# Altium schematic symbol library 691 356 310 0xx B.SchLib: 7 symbols
Pins are listed as number, name and electrical type; pins without a type are passive.

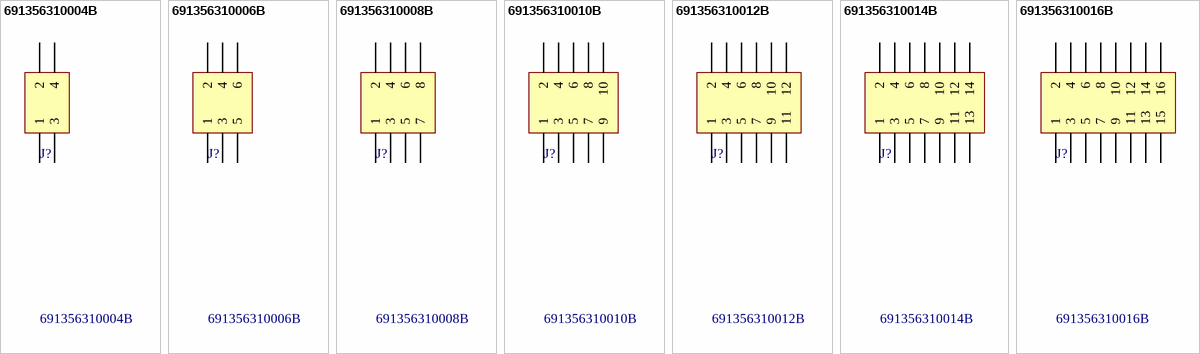
[diagram p0: symbols 691356310004B to 691356310016B]

## 691356310004B
designator J?
WR-TBL Terminal block - serie 356 B - 3.81 mm; Manufacturer: Würth Elektronik eiSos GmbH; ComponentLink1 Description: Manufacturer; ComponentLink2 Description: Datasheet; NoPins: 04; Created Date: 30 December 2013; partNo: 691356310004B; ComponentLink1URL: http://www.we-online.com; ComponentLink2URL: http://katalog.we-online.de/em/datasheet/6913563100xxB.pdf; Created by: Karrer Zheng
footprint 691356310004B (3,81mm - PCB - Double level - Horizontal - with flanges - 04p)
pins: 1, 2, 3, 4

## 691356310006B
designator J?
WR-TBL Terminal block - serie 356 B - 3.81 mm; Manufacturer: Würth Elektronik eiSos GmbH; ComponentLink1 Description: Manufacturer; ComponentLink2 Description: Datasheet; NoPins: 06; Created Date: 30 December 2013; partNo: 691356310006B; ComponentLink1URL: http://www.we-online.com; ComponentLink2URL: http://katalog.we-online.de/em/datasheet/6913563100xxB.pdf; Created by: Karrer Zheng
footprint 691356310006B (3,81mm - PCB - Double level - Horizontal - with flanges - 06p)
pins: 1, 2, 3, 4, 5, 6

## 691356310008B
designator J?
WR-TBL Terminal block - serie 356 B - 3.81 mm; Manufacturer: Würth Elektronik eiSos GmbH; ComponentLink1 Description: Manufacturer; ComponentLink2 Description: Datasheet; NoPins: 08; Created Date: 30 December 2013; partNo: 691356310008B; ComponentLink1URL: http://www.we-online.com; ComponentLink2URL: http://katalog.we-online.de/em/datasheet/6913563100xxB.pdf; Created by: Karrer Zheng
footprint 691356310008B (3,81mm - PCB - Double level - Horizontal - with flanges - 08p)
pins: 1, 2, 3, 4, 5, 6, 7, 8

## 691356310010B
designator J?
WR-TBL Terminal block - serie 356 B - 3.81 mm; Manufacturer: Würth Elektronik eiSos GmbH; ComponentLink1 Description: Manufacturer; ComponentLink2 Description: Datasheet; NoPins: 10; Created Date: 30 December 2013; partNo: 691356310010B; ComponentLink1URL: http://www.we-online.com; ComponentLink2URL: http://katalog.we-online.de/em/datasheet/6913563100xxB.pdf; Created by: Karrer Zheng
footprint 691356310010B (3,81mm - PCB - Double level - Horizontal - with flanges - 10p)
pins: 1, 2, 3, 4, 5, 6, 7, 8, 9, 10

## 691356310012B
designator J?
WR-TBL Terminal block - serie 356 B - 3.81 mm; Manufacturer: Würth Elektronik eiSos GmbH; ComponentLink1 Description: Manufacturer; ComponentLink2 Description: Datasheet; NoPins: 12; Created Date: 30 December 2013; partNo: 691356310012B; ComponentLink1URL: http://www.we-online.com; ComponentLink2URL: http://katalog.we-online.de/em/datasheet/6913563100xxB.pdf; Created by: Karrer Zheng
footprint 691356310012B (3,81mm - PCB - Double level - Horizontal - with flanges - 12p)
pins: 1, 2, 3, 4, 5, 6, 7, 8, 9, 10, 11, 12

## 691356310014B
designator J?
WR-TBL Terminal block - serie 356 B - 3.81 mm; Manufacturer: Würth Elektronik eiSos GmbH; ComponentLink1 Description: Manufacturer; ComponentLink2 Description: Datasheet; NoPins: 14; Created Date: 30 December 2013; partNo: 691356310014B; ComponentLink1URL: http://www.we-online.com; ComponentLink2URL: http://katalog.we-online.de/em/datasheet/6913563100xxB.pdf; Created by: Karrer Zheng
footprint 691356310014B (3,81mm - PCB - Double level - Horizontal - with flanges - 14p)
pins: 1, 2, 3, 4, 5, 6, 7, 8, 9, 10, 11, 12, 13, 14

## 691356310016B
designator J?
WR-TBL Terminal block - serie 356 B - 3.81 mm; Manufacturer: Würth Elektronik eiSos GmbH; ComponentLink1 Description: Manufacturer; ComponentLink2 Description: Datasheet; NoPins: 16; Created Date: 30 December 2013; partNo: 691356310016B; ComponentLink1URL: http://www.we-online.com; ComponentLink2URL: http://katalog.we-online.de/em/datasheet/6913563100xxB.pdf; Created by: Karrer Zheng
footprint 691356310016B (3,81mm - PCB - Double level - Horizontal - with flanges - 16p)
pins: 1, 2, 3, 4, 5, 6, 7, 8, 9, 10, 11, 12, 13, 14, 15, 16